# Altium footprint library Miscellaneous Devices.PcbLib: 214 footprints (part 9 of 14)
Each footprint in its own frame and in the unit in brackets; x right, y up, seen from the top. Pads: shape width x height; smd on the part's side, far side on the other; paste and mask are expansions set on the pad; w line width, h text height; cw(c..) or ccw(c..) is an arc to the next point about the centre after c.
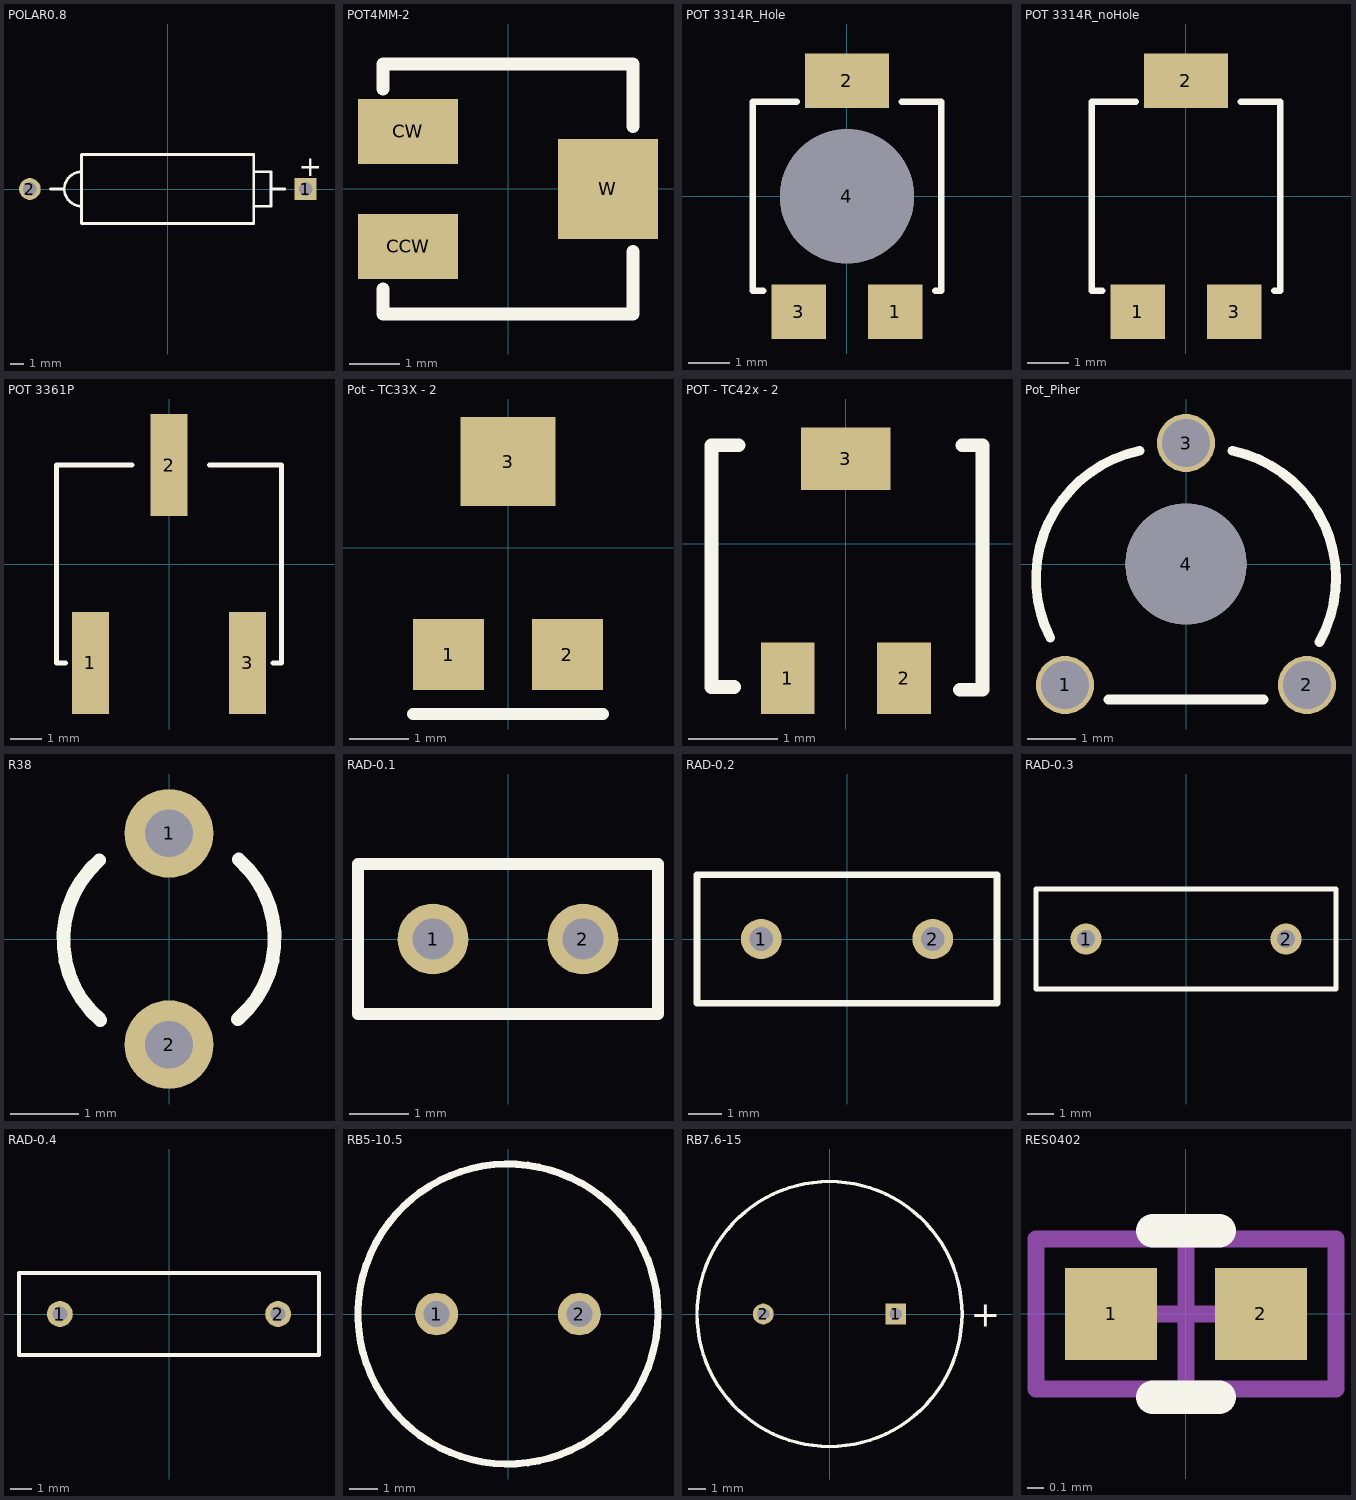
[diagram p8: the footprints below, top view; thin cyan lines are the x and y axes]

## POLAR0.8 [mm] "Polarized Capacitor; 2 Leads"
height 5.08
pads (2):
  rect 1.6x1.6 hole 1: 1(10.16,0)
  round 1.6 hole 1: 2(-10.16,0)
Top Overlay:
  lines w0.2: -8.636,0 -7.62,0 ; -6.35,-1.27 cw(c-6.35,0) -6.35,1.27 ; 6.35,-1.27 7.62,-1.27 7.62,1.27 6.35,1.27 ; 7.62,0 8.636,0 ; -6.35,-2.54 -6.35,2.54 6.35,2.54 6.35,-2.54 -6.35,-2.54
  text "+" at 9.652,0.95 h1.5

## POT4MM-2 [mm] "Square Trimming Potentiometer"
pads (3):
  rect 2x1.3 smd: CCW(-2,-1.15) CW(-2,1.15)
  rect 2x2 smd: W(2,0)
Top Overlay:
  lines w0.254: -2.5,-2 -2.5,-2.5 2.5,-2.5 2.5,-1.25 ; -2.5,2 -2.5,2.5 2.5,2.5 2.5,1.25

## POT 3314R_Hole [mm] "fabr: Bourns"
pads (4):
  rect 1.3x1.3 smd: 1(1.15,-2.75) 3(-1.15,-2.75)
  rect 2x1.3 smd: 2(0,2.75)
  round 3.2 hole 3.2 unplated: 4(0,0)
Top Overlay:
  lines w0.154: -2,-2.25 -2.25,-2.25 -2.25,2.25 -1.2,2.25 ; 1.3,2.25 2.25,2.25 2.25,-2.25 2.1,-2.25

## POT 3314R_noHole [mm] "fabr: Bourns"
pads (3):
  rect 1.3x1.3 smd: 1(-1.15,-2.75) 3(1.15,-2.75)
  rect 2x1.3 smd: 2(0,2.75)
Top Overlay:
  lines w0.154: -2,-2.25 -2.25,-2.25 -2.25,2.25 -1.2,2.25 ; 1.3,2.25 2.25,2.25 2.25,-2.25 2.1,-2.25

## POT 3361P [mm] "fabr: Bourns"
pads (3):
  rect 1.19x3.3 smd: 1(-2.54,-3.2) 2(0,3.2) 3(2.54,-3.2)
Top Overlay:
  lines w0.154: -3.35,-3.2 -3.64,-3.2 -3.64,3.2 -1.2,3.2 ; 1.3,3.2 3.64,3.2 3.64,-3.2 3.36,-3.2

## Pot - TC33X - 2 [mm] "SMD 3mm fabr:Bourns"
pads (3):
  rect 1.2x1.2 smd: 1(-1,-1.8) 2(1,-1.8)
  rect 1.6x1.5 smd: 3(0,1.45)
Top Overlay:
  lines w0.2: -1.6,-2.8 1.6,-2.8
3D body: height 1.13, standoff -0.03, extent -1.8,-1.863 1.8,2

## POT - TC42x - 2 [mm] "fabr: Bourns"
pads (3):
  rect 0.6x0.8 smd: 1(-0.65,-1.5) 2(0.65,-1.5)
  rect 1x0.7 smd: 3(0,0.95)
Top Overlay:
  lines w0.154: -1.25,-1.6 -1.5,-1.6 -1.5,1.1 -1.2,1.1 ; 1.275,-1.63 1.525,-1.63 1.525,1.1 1.3,1.1
3D body "pot - Bourns TC42X-2.stp": height 0.79, standoff 0, extent -1.11,-1.747 1.1,1.097

## Pot_Piher [mm] "Horizontal_mouting. THT"
pads (4):
  round 1.2 hole 1: 1(-2.5,-2.5) 2(2.5,-2.5) 3(0,2.5)
  round 2.5 hole 2.5 unplated: 4(0,0)
Top Overlay:
  lines w0.2: -2.806,-1.526 cw(c-0.4,-0.3) -0.961,2.341 ; -1.6,-2.8 1.6,-2.8 ; 0.961,2.341 cw(c0.4,-0.3) 2.76,-1.612

## R38 [mm] "Crystal, Thru-Hole; 2 Leads; Body 3.1 x 8.2 mm (Dia.xH)"
height 8.2
pads (2):
  round 1.3 hole 0.7: 1(0,1.55) 2(0,-1.55)
Top Overlay:
  lines w0.2: -1.022,1.155 ccw(c0,-0.01) -1.006,-1.189 ; 1.006,-1.179 ccw(c0,0) 1.022,1.165

## RAD-0.1 [mm] "Radial Cap, Thru-Hole; 2 Leads; 0.1 in Pin Spacing"
pads (2):
  round 1.2 hole 0.7: 1(-1.27,0) 2(1.27,0)
Top Overlay:
  lines w0.2: -2.54,-1.27 2.54,-1.27 2.54,1.27 -2.54,1.27 -2.54,-1.27

## RAD-0.2 [mm] "Radial Cap, Thru-Hole; 2 Leads; 0.2 in Pin Spacing"
pads (2):
  round 1.2 hole 0.7: 1(-2.54,0) 2(2.54,0)
Top Overlay:
  lines w0.2: -4.445,-1.905 4.445,-1.905 4.445,1.905 -4.445,1.905 -4.445,-1.905

## RAD-0.3 [mm] "Radial Cap, Thru-Hole; 2 Leads; 0.3 in Pin Spacing"
height 6
pads (2):
  round 1.2 hole 0.7: 1(-3.81,0) 2(3.81,0)
Top Overlay:
  lines w0.2: -5.715,-1.905 5.715,-1.905 5.715,1.905 -5.715,1.905 -5.715,-1.905

## RAD-0.4 [mm] "Radial Cap, Thru-Hole; 2 Leads; 0.4 in Pin Spacing"
pads (2):
  round 1.2 hole 0.7: 1(-5.08,0) 2(5.08,0)
Top Overlay:
  lines w0.2: -6.985,-1.905 6.985,-1.905 6.985,1.905 -6.985,1.905 -6.985,-1.905

## RB5-10.5 [mm] "Capacitor (Radial); 2 Leads"
pads (2):
  round 1.5 hole 0.9: 1(-2.5,0) 2(2.5,0)
Top Overlay:
  circle w0.25: c0,0 r5.25
Mechanical 1:
  circle w0.02: c0,0 r5.25

## RB7.6-15 [mm] "Polarized Capacitor (Radial); 2 Leads"
pads (2):
  rect 1.2x1.2 hole 0.7: 1(3.81,0)
  round 1.2 hole 0.7: 2(-3.81,0)
Top Overlay:
  circle w0.2: c0,0 r7.62
  text "+" at 8.132,-0.737 h1.5

## RES0402 [mm] "SMD, Body 1.00x0.50mm"
height 0.9
pads (2):
  rect 0.55x0.55 smd: 1(-0.45,0) 2(0.45,0)
Top Overlay:
  lines w0.2: -0.2,-0.5 0.2,-0.5 ; -0.2,0.5 0.2,0.5
Mechanical 15:
  lines w0.1: -0.475,0 0.475,0 ; 0,-0.475 0,0.475 ; -0.9,-0.45 0.9,-0.45 0.9,0.45 -0.9,0.45 -0.9,-0.45
3D body "RES0402.STEP": height 0.35, standoff 0, extent -0.5,-0.25 0.5,0.25